# Altium integrated library PPPC041LGBN-RC.IntLib: 2 symbols
Pins are listed as number, name and electrical type; pins without a type are passive.

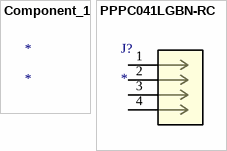
[diagram p0: symbols Component_1 to PPPC041LGBN-RC]

## Component_1
designator *

## PPPC041LGBN-RC
designator J?
No Description Available; Mfr_Name: Sullins; RefDes: RefDes; Type: Type
footprint CONN_PPPC041LGBN-RC_SUL
pins: 1, 2, 3, 4